# EAGLE library part AT42QT1011 (library SparkFun-Sensors)
Atmel AT42QT1011 The AT42QT1011 (QT1011) is a digital burst mode charge-transfer (QT™) sensor that is capable of detecting nearproximityor touch, making it ideal for implementing touch controls.The QT1011 is designed specifically for human interfaces, like control panels, appliances, toys, lighting controls, or anywhere a mechanical switch or button may be found. It includes all hardware and signal processing functions necessary to provide stable sensing under a wide variety of changing conditions. Only a single low-cost capacitor is required for operation. Datasheet <https://ww1.microchip.com/downloads/en/DeviceDoc/40001947A.pdf> Sparkfun Products Sparkfun Capacitive Touch Breakout <https://www.sparkfun.com/products/14520> (SEN-14520)
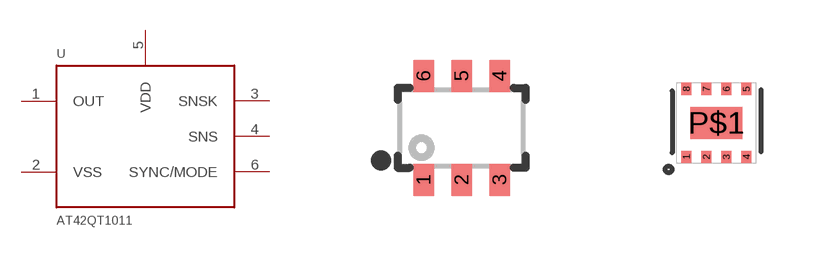
[diagram p65: symbol with the pads of SOT23-6; footprints SOT23-6, UDFN/USON_8_PAD]

Designator prefix -

## AT42QT1011SOT23  [SOT23-6]
1  OUT
2  VSS
3  SNSK
4  SNS
5  VDD
6  SYNC/MODE

## AT42QT1011UDFN (PROD_ID: IC-13838; VALUE: AT42QT1011-MAHR)  [UDFN/USON_8_PAD]
1  SNSK
4  VSS
5  OUT
6  SYNC/MODE
7  VDD
8  SNS

## Footprint SOT23-6 (pad centres in mm)
6-Pin SOT23-6 Datasheet <http://cdn.sparkfun.com/datasheets/Sensors/Capacitive/AT42QT1010_Datasheet.pdf> Specifications: Pin Count: 6 Area: 2.6 x 2.9 x 1.45 mm Pitch: 0.95 mm Devices Using: AT42QT1012
smd 0.51 x 0.8: 1 -0.95,-1.3; 2 0,-1.3; 3 0.95,-1.3; 4 0.95,1.3; 5 0,1.3; 6 -0.95,1.3

## Footprint UDFN/USON_8_PAD (pad centres in mm)
smd 0.25 x 0.3: 1 -0.75,-0.852; 2 -0.25,-0.852; 3 0.25,-0.852; 4 0.75,-0.852; 5 0.75,0.852; 6 0.25,0.852; 7 -0.25,0.852; 8 -0.75,0.852
smd 1.3 x 0.8: P$1 0,0